# EAGLE library part SI3460DV (library xess)
Siliconix NFET
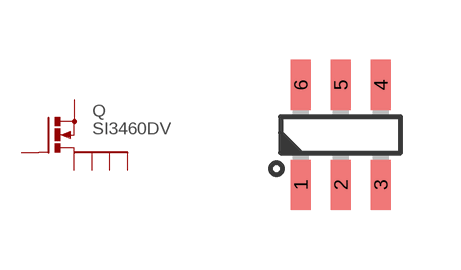
[diagram p41: symbol with the pads of TSOP6; footprint TSOP6]

Designator prefix Q

## SI3460DV  [TSOP6]
1  D1  pas
2  D2  pas
3  G  pas
4  S  pas
5  D3  pas
6  D4  pas

## Footprint TSOP6 (pad centres in mm)
smd 0.5 x 1.25: 1 -1,-1.2; 2 0,-1.2; 3 1,-1.2; 4 1,1.3; 5 0,1.3; 6 -1,1.3